# EAGLE library part SN74LVC245APW (library FaBo-LogicIC)
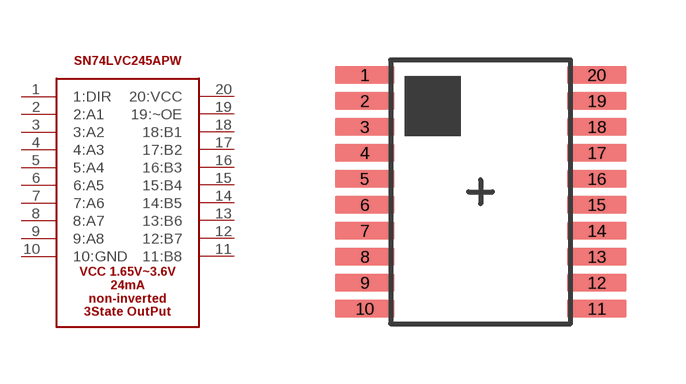
[diagram p5: symbol with the pads of TSSOP20; footprint TSSOP20]

Designator prefix -

## SN74LVC245APW  [TSSOP20]
1  1:DIR  in
2  2:A1
3  3:A2
4  4:A3
5  5:A4
6  6:A5
7  7:A6
8  8:A7
9  9:A8
10  10:GND  sup
11  11:B8
12  12:B7
13  13:B6
14  14:B5
15  15:B4
16  16:B3
17  17:B2
18  18:B1
19  19:~OE  in
20  20:VCC  pwr

## Footprint TSSOP20 (pad centres in mm)
smd 1.5 x 0.45: 1 -2.9,2.925; 2 -2.9,2.275; 3 -2.9,1.625; 4 -2.9,0.975; 5 -2.9,0.325; 6 -2.9,-0.325; 7 -2.9,-0.975; 8 -2.9,-1.625; 9 -2.9,-2.275; 10 -2.9,-2.925; 11 2.9,-2.925; 12 2.9,-2.275; 13 2.9,-1.625; 14 2.9,-0.975; 15 2.9,-0.325; 16 2.9,0.325; 17 2.9,0.975; 18 2.9,1.625; 19 2.9,2.275; 20 2.9,2.925